# Altium footprint library KINGBRIGHT_SA39-11EWA.PcbLib: 1 footprints
Each footprint in its own frame and in the unit in brackets; x right, y up, seen from the top. Pads: shape width x height; smd on the part's side, far side on the other; paste and mask are expansions set on the pad; w line width, h text height; cw(c..) or ccw(c..) is an arc to the next point about the centre after c.
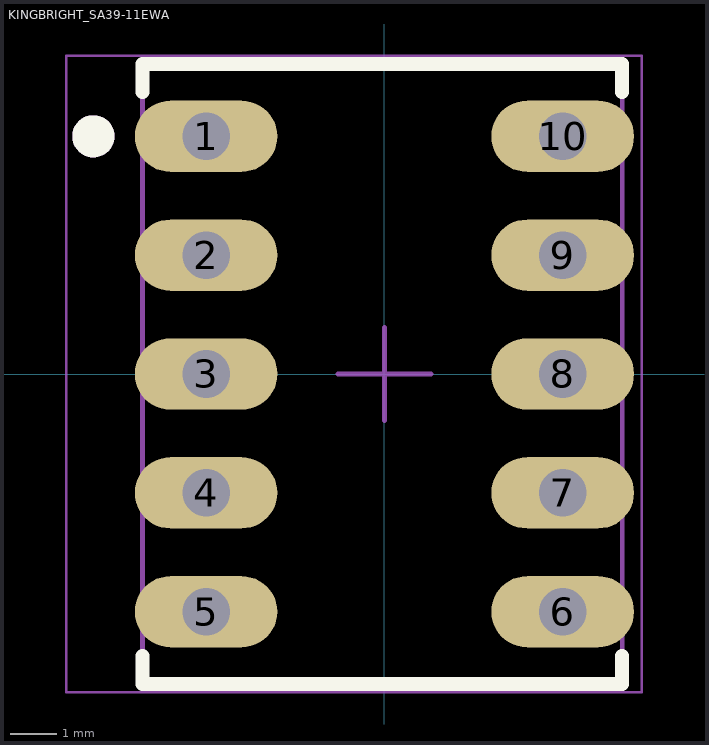
[diagram p0: the footprint, top view; thin cyan lines are the x and y axes]

## KINGBRIGHT_SA39-11EWA [mil] "KINGBRIGHT_SA39-11EWA"
height 285.43
pads (10):
  rrect100% 120x60 hole 40 mask+1.97: 1(-150,200) 2(-150,100) 3(-150,0) 4(-150,-100) 5(-150,-200) 6(150,-200) 7(150,-100) 8(150,0) 9(150,100) 10(150,200)
Top Overlay:
  circle w19.68: c-244.88,200 r7.87
  lines w11.81: -203.54,-237.4 -203.54,-260.83 200,-260.83 200,-237.4 ; -203.54,237.4 -203.54,260.83 200,260.83 200,237.4
Mechanical 13:
  circle w19.68: c-244.88,200 r7.87
  lines w3.94: -203.54,-260.83 200,-260.83 200,260.83 -203.54,260.83 -203.54,-260.83
Mechanical 15:
  lines w1.97: -267.72,-267.72 216.54,-267.72 216.54,267.72 -267.72,267.72 -267.72,-267.72
  lines w3.94: -39.37,0 39.37,0 ; 0,-39.37 0,39.37
3D body "KINGBRIGHT_SA39-11.STEP": height 275.59, standoff -157.48, extent -196.85,-255.91 196.85,255.91